# Altium footprint library diodes.PcbLib: 33 footprints (part 2 of 3)
Each footprint in its own frame and in the unit in brackets; x right, y up, seen from the top. Pads: shape width x height; smd on the part's side, far side on the other; paste and mask are expansions set on the pad; w line width, h text height; cw(c..) or ccw(c..) is an arc to the next point about the centre after c.
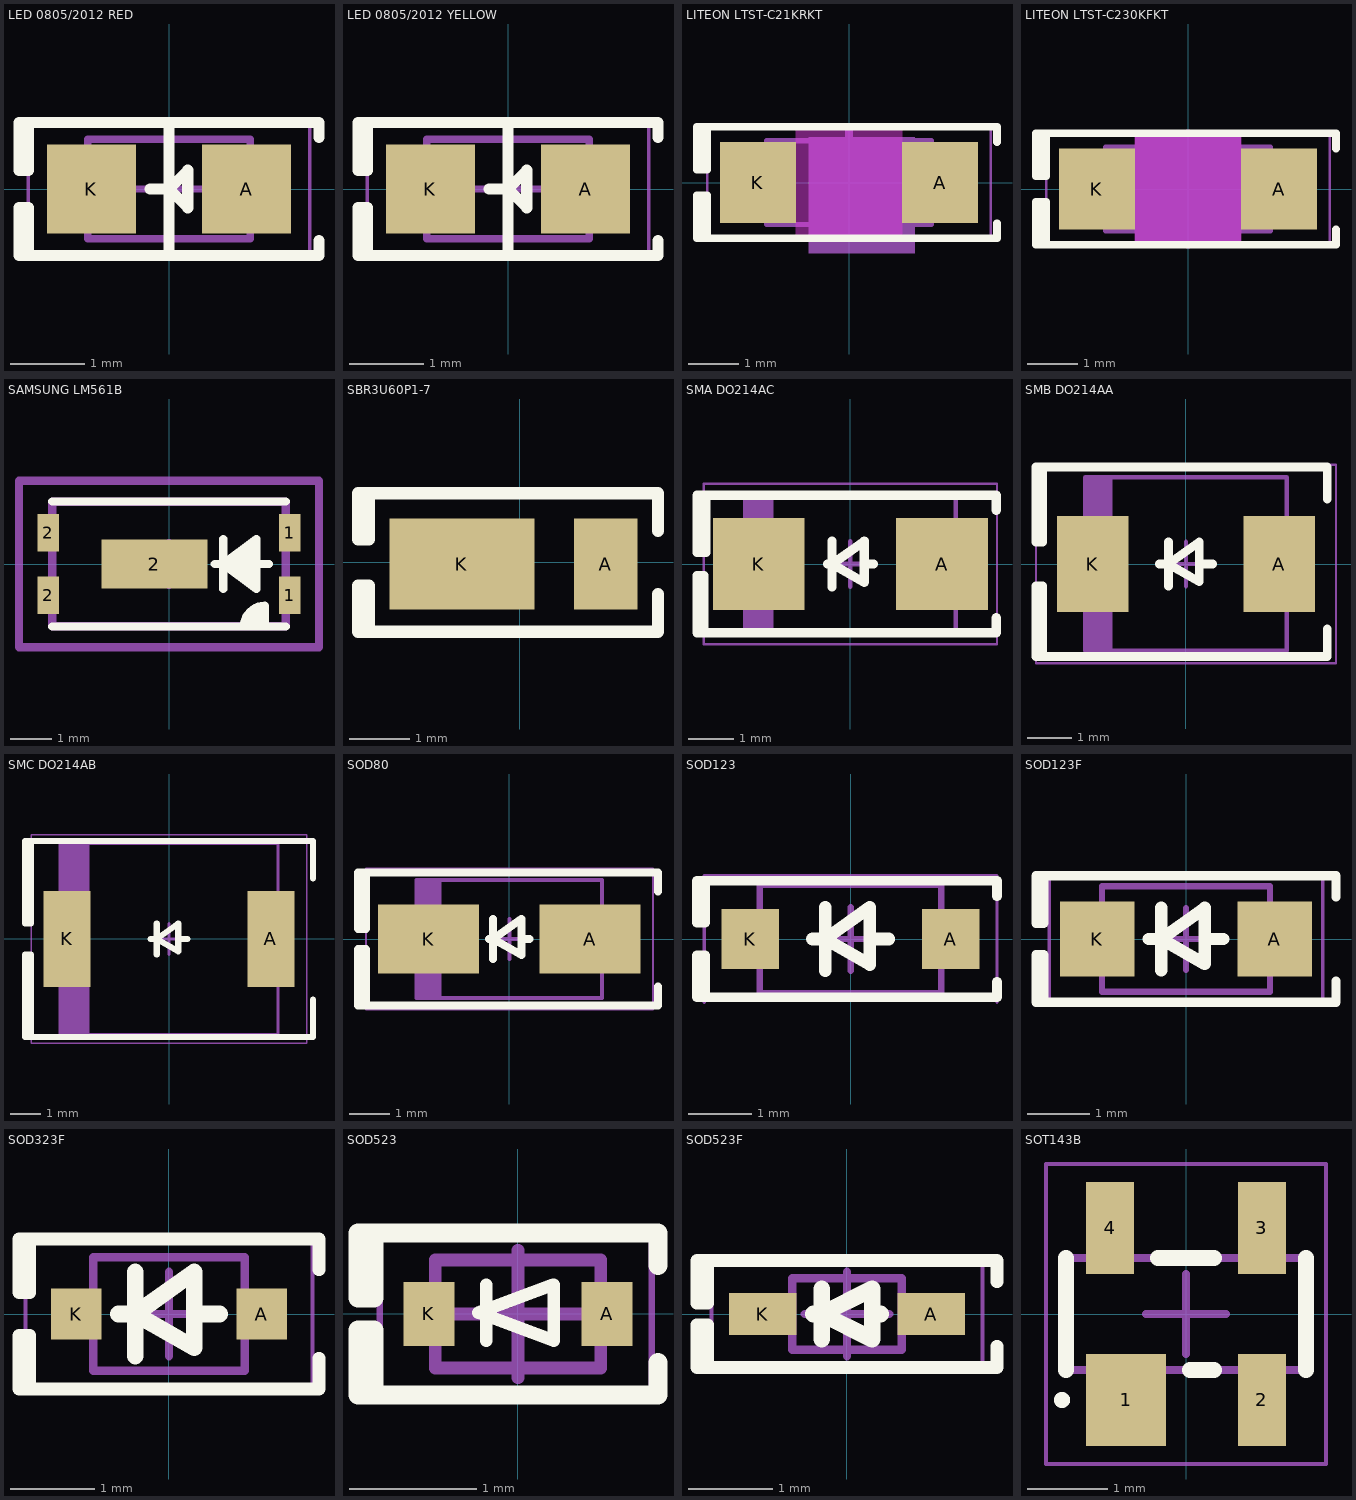
[diagram p1: the footprints below, top view; thin cyan lines are the x and y axes]

## LED 0805/2012 RED [mm] "Chip Diode, 2-Leads, Body 2.00x1.25mm, IPC Medium Density"
height 0.7
pads (2):
  rect 1.2x1.2 smd: A(1.05,0) K(-1.05,0)
Top Overlay:
  lines w0.15: -0.254,0 0,0 ; 0,-0.9 0,0.9 ; 2.032,-0.7 2.032,-0.9 -1.905,-0.9 ; 2.032,0.7 2.032,0.9 -1.905,0.9 ; -1.905,-0.9 -2.032,-0.9 -2.032,-0.254 -1.905,-0.254 -1.905,-0.9 ; -1.905,0.9 -2.032,0.9 -2.032,0.254 -1.905,0.254 -1.905,0.9 ; 0,0 0.254,-0.254 0.254,0.254 0,0
Mechanical 13:
  lines w0.1: -1.1,-0.675 -1.1,0.675 1.1,0.675 1.1,-0.675 -1.1,-0.675
Mechanical 15:
  lines w0.05: -1.905,-0.95 -1.905,0.95 1.905,0.95 1.905,-0.95 -1.905,-0.95
  lines w0.1: -0.5,0 0.5,0 ; 0,-0.5 0,0.5
3D body "LED 0805 Lens RED.STEP": height 0.9, standoff 0.3, extent -0.65,-0.625 0.65,0.625
3D body "LED 0805 Base RED.STEP": height 0.4, standoff 0, extent -1,-0.625 1,0.625

## LED 0805/2012 YELLOW [mm] "Chip Diode, 2-Leads, Body 2.00x1.25mm, IPC Medium Density"
height 0.7
pads (2):
  rect 1.2x1.2 smd: A(1.05,0) K(-1.05,0)
Top Overlay:
  lines w0.15: -0.254,0 0,0 ; 0,-0.9 0,0.9 ; 2.032,-0.7 2.032,-0.9 -1.905,-0.9 ; 2.032,0.7 2.032,0.9 -1.905,0.9 ; -1.905,-0.9 -2.032,-0.9 -2.032,-0.254 -1.905,-0.254 -1.905,-0.9 ; -1.905,0.9 -2.032,0.9 -2.032,0.254 -1.905,0.254 -1.905,0.9 ; 0,0 0.254,0.254 0.254,-0.254 0,0
Mechanical 13:
  lines w0.1: -1.1,-0.675 -1.1,0.675 1.1,0.675 1.1,-0.675 -1.1,-0.675
Mechanical 15:
  lines w0.05: -1.905,-0.95 -1.905,0.95 1.905,0.95 1.905,-0.95 -1.905,-0.95
  lines w0.1: -0.5,0 0.5,0 ; 0,-0.5 0,0.5
3D body "LED 0805 Lens YELLOW.STEP": height 0.9, standoff 0.3, extent -0.65,-0.625 0.65,0.625
3D body "LED 0805 Base YELLOW.STEP": height 0.4, standoff 0, extent -1,-0.625 1,0.625

## LITEON LTST-C21KRKT [mm] "Chip Diode, 2-Leads, Body 3.13x1.55mm, IPC Medium Density"
height 0.7
pads (2):
  rect 1.5x1.6 smd: A(1.8,0) K(-1.8,0)
Top Overlay:
  region: -2.794,1.1 -3,1.1 -3,0.254 -2.794,0.254
  region: -2.794,-0.254 -3,-0.254 -3,-1.1 -2.794,-1.1
  lines w0.15: 2.921,-0.8 2.921,-1.1 -2.794,-1.1 ; 2.921,0.8 2.921,1.1 -2.794,1.1 ; -2.794,-1.1 -3,-1.1 -3,-0.254 -2.794,-0.254 -2.794,-1.1 ; -2.794,1.1 -3,1.1 -3,0.254 -2.794,0.254 -2.794,1.1
Keep-Out Layer:
  board cut-out: 1.05,-1.15 1.05,1.15 -1.05,1.15 -1.05,-1.15
Mechanical 13:
  lines w0.1: -1.625,-0.825 1.625,-0.825 1.625,0.825 -1.625,0.825 -1.625,-0.825
  lines w0.15: -0.254,0 0,0 ; 0,-1.1 0,1.1 ; 0.508,0 0.762,0 ; 0,0 0.508,0.381 0.508,-0.381 0,0
Mechanical 15:
  lines w0.05: -2.794,-1.1 2.794,-1.1 2.794,1.1 -2.794,1.1 -2.794,-1.1
  lines w0.1: -0.5,0 0.5,0 ; 0,-0.5 0,0.5
Mechanical 31:
  rectangle: -0.796,-1.404 1.304,0.896
3D body "LED 1206 Lens RED.STEP": height 0, standoff -0.6, extent -0.75,-0.8 0.75,0.8
3D body "LED 1206 Base RED.STEP": height 0.3, standoff -0.1, extent -1.6,-0.8 1.6,0.8

## LITEON LTST-C230KFKT [mm] "Chip Diode, 2-Leads, Body 3.13x1.55mm, IPC Medium Density"
height 0.7
pads (2):
  rect 1.5x1.6 smd: A(1.8,0) K(-1.8,0)
Top Overlay:
  region: -2.794,1.1 -3,1.1 -3,0.254 -2.794,0.254
  region: -2.794,-0.254 -3,-0.254 -3,-1.1 -2.794,-1.1
  lines w0.15: 2.921,-0.8 2.921,-1.1 -2.794,-1.1 ; 2.921,0.8 2.921,1.1 -2.794,1.1 ; -2.794,-1.1 -3,-1.1 -3,-0.254 -2.794,-0.254 -2.794,-1.1 ; -2.794,1.1 -3,1.1 -3,0.254 -2.794,0.254 -2.794,1.1
Keep-Out Layer:
  board cut-out: 1.05,-1.15 1.05,1.15 -1.05,1.15 -1.05,-1.15
Mechanical 13:
  lines w0.1: -1.625,-0.825 1.625,-0.825 1.625,0.825 -1.625,0.825 -1.625,-0.825
  lines w0.15: -0.254,0 0,0 ; 0,-1.1 0,1.1 ; 0.508,0 0.762,0 ; 0,0 0.508,0.381 0.508,-0.381 0,0
Mechanical 15:
  lines w0.05: -2.794,-1.1 2.794,-1.1 2.794,1.1 -2.794,1.1 -2.794,-1.1
  lines w0.1: -0.5,0 0.5,0 ; 0,-0.5 0,0.5
Mechanical 31:
  rectangle: -1.05,-1.15 1.05,1.15
3D body "LED 0805 Lens YELLOW.STEP": height 0, standoff -0.6, extent -0.65,-0.625 0.65,0.625
3D body "LED 1206 Base YELLOW.STEP": height 0.3, standoff -0.1, extent -1.6,-0.8 1.6,0.8

## SAMSUNG LM561B [mm]
height 0.8
pads (5):
  rect 0.52x0.9 smd: 1(2.9,-0.75) 1(2.9,0.75) 2(-2.9,-0.75) 2(-2.9,0.75)
  rect 2.54x1.18 smd: 2(-0.35,0)
Top Overlay:
  region: 2.1,-0.6 2.1,0.6 2,0.6 1.4,0 2,-0.6
  region: 1.8,-1.5 2.3,-1.5 2.3,-1 2.1,-1 1.8,-1.3
  lines w0.2: -2.8,-1.5 2.8,-1.5 ; -2.8,1.5 2.8,1.5 ; 1.1,0 2.4,0 ; 1.3,-0.6 1.3,0.6 ; 1.8,-1.5 cw(c2.3,-1.5) 2.3,-1 ; 2.3,-1.5 2.3,-1 ; 2.3,-1 2.3,-1 ; 1.3,0 2.1,-0.6 2.1,0.6 1.3,0
Mechanical 1:
  lines w0.2: -2.8,-1.498 -2.8,1.498 2.8,1.498 2.8,-1.498 -2.8,-1.498
Mechanical 15:
  lines w0.2: -0.5,0 0.5,0 ; 0,-0.5 0,0.5 ; -3.6,-2 -3.6,2 3.6,2 3.6,-2 -3.6,-2
3D body "Samsung LM561B LED.STEP": height 0.8, standoff 0, extent -2.8,-1.498 2.8,1.498

## SBR3U60P1-7 [mm]
pads (2):
  rect 1.05x1.5 smd: A(1.425,-0.025)
  rect 2.4x1.5 smd: K(-0.95,-0.025)
Top Overlay:
  lines w0.2: -2.488,-1.143 -2.488,-0.381 -2.667,-0.381 -2.667,-1.143 2.286,-1.143 2.286,-0.518 ; -2.488,1.143 -2.488,0.381 -2.667,0.381 -2.667,1.143 2.286,1.143 2.286,0.518
3D body: height 1.1, standoff 1, extent -1.125,-0.95 -0.95,0.95
3D body: height 0.2, standoff 0, extent -1.913,-0.6 -1.488,0.45
3D body: height 0.2, standoff 0, extent 1.5,-0.6 1.925,0.45
3D body: height 1, standoff 0, extent -1.5,-0.95 1.5,0.95

## SMA DO214AC [mm] "Molded Diode, 2-Leads, Body 4.30x2.60mm, IPC Medium Density"
height 2.4
pads (2):
  rect 2x2 smd: A(2,0) K(-2,0)
Top Overlay:
  lines w0.2: -3.2,-1.5 -3.2,-0.254 -3.35,-0.254 -3.35,-1.5 3.183,-1.5 3.183,-1.175 ; -3.156,1.5 -3.156,0.254 -3.35,0.254 -3.35,1.5 3.183,1.5 3.183,1.175 ; -0.5,0 -0.4,0 ; -0.4,-0.5 -0.4,0.5 ; 0.3,0 0.5,0 ; -0.4,0 0.3,-0.4 0.3,0.5 -0.4,0
Mechanical 13:
  region: -1.681,1.46 -2.3,1.46 -2.3,-1.46 -1.681,-1.46
  lines w0.1: -2.3,-1.46 -2.3,1.46 2.3,1.46 2.3,-1.46 -2.3,-1.46
Mechanical 15:
  lines w0.05: -3.2,-1.75 -3.2,1.75 3.2,1.75 3.2,-1.75 -3.2,-1.75
  lines w0.1: -0.5,0 0.5,0 ; 0,-0.5 0,0.5
3D body "SMA.STEP": height 2.4, standoff 0, extent -2.6,-1.375 2.6,1.375

## SMB DO214AA [mm] "Molded Diode, 2-Leads, Body 4.31x3.62mm, IPC Medium Density"
height 2.44
pads (2):
  rect 1.62x2.18 smd: A(2.11,0) K(-2.11,0)
Top Overlay:
  lines w0.2: -3.25,-2.1 -3.25,-0.5 -3.4,-0.5 -3.4,-2.1 3.2,-2.1 3.2,-1.475 ; -0.6,0 -0.4,0 ; -0.4,-0.5 -0.4,0.5 ; 0.3,0 0.6,0 ; 3.2,1.475 3.2,2.2 -3.25,2.2 ; -3.25,2.2 -3.4,2.2 -3.4,0.5 -3.25,0.5 -3.25,2.2 ; -0.4,0 0.3,-0.4 0.3,0.5 -0.4,0
Mechanical 13:
  region: -1.67,1.97 -2.285,1.97 -2.285,-1.97 -1.67,-1.97
  lines w0.1: -2.285,-1.97 2.285,-1.97 2.285,1.97 -2.285,1.97 -2.285,-1.97
Mechanical 15:
  lines w0.05: -3.4,-2.25 3.4,-2.25 3.4,2.25 -3.4,2.25 -3.4,-2.25
  lines w0.1: -0.5,0 0.5,0 ; 0,-0.5 0,0.5
3D body "SMB.STEP": height 2.4, standoff 0, extent -2.6,-1.8 2.6,1.799

## SMC DO214AB [mm] "Molded Diode, 2-Leads, Body 6.85x5.90mm, IPC Medium Density"
height 2.62
pads (2):
  rect 1.54x3.14 smd: A(3.325,0) K(-3.325,0)
Top Overlay:
  lines w0.2: -4.5,-3.2 -4.5,-0.5 -4.7,-0.5 -4.7,-3.2 4.7,-3.2 4.7,-1.975 ; -4.5,3.2 -4.5,0.5 -4.7,0.5 -4.7,3.2 4.7,3.2 4.7,1.975 ; -0.6,0 -0.4,0 ; -0.4,-0.5 -0.4,0.5 ; 0.3,0 0.6,0 ; -0.4,0 0.3,0.5 0.3,-0.4 -0.4,0
Mechanical 13:
  region: -2.599,3.11 -3.555,3.11 -3.555,-3.11 -2.599,-3.11
  lines w0.1: -3.555,-3.11 3.555,-3.11 3.555,3.11 -3.555,3.11 -3.555,-3.11
Mechanical 15:
  lines w0.05: -4.5,-3.4 4.5,-3.4 4.5,3.4 -4.5,3.4 -4.5,-3.4
  lines w0.1: -0.5,0 0.5,0 ; 0,-0.5 0,0.5
3D body "SMC.STEP": height 2.6, standoff 0, extent -3.97,-2.952 3.97,2.952

## SOD80 [mm] "Molded Diode, 2-Leads,"
height 2.4
pads (2):
  rect 2.5x1.7 smd: A(2,0) K(-2,0)
Top Overlay:
  lines w0.2: -3.556,-1.651 -3.556,-0.254 -3.75,-0.254 -3.75,-1.651 3.683,-1.651 3.683,-1.175 ; -3.556,1.651 -3.556,0.254 -3.75,0.254 -3.75,1.651 3.683,1.651 3.683,1.175 ; -0.5,0 -0.4,0 ; -0.4,-0.5 -0.4,0.5 ; 0.3,0 0.5,0 ; -0.4,0 0.3,0.5 0.3,-0.4 -0.4,0
Mechanical 13:
  region: -1.681,1.46 -2.3,1.46 -2.3,-1.46 -1.681,-1.46
  lines w0.1: -2.3,-1.46 2.3,-1.46 2.3,1.46 -2.3,1.46 -2.3,-1.46
Mechanical 15:
  lines w0.05: -3.556,-1.75 3.556,-1.75 3.556,1.75 -3.556,1.75 -3.556,-1.75
  lines w0.1: -0.5,0 0.5,0 ; 0,-0.5 0,0.5
3D body "SOD-80C.STEP": height 0.8, standoff -0.8, extent -1.723,-0.804 1.977,0.804

## SOD123 [mm] "SOD, 2-Leads, Body 1.55x3.70mm, IPC Medium Density"
height 1.35
pads (2):
  rect 0.9x0.95 smd: A(1.575,0) K(-1.575,0)
Top Overlay:
  lines w0.15: 2.3,-0.675 2.3,-0.916 -2.286,-0.916 ; 2.3,0.675 2.3,0.916 -2.286,0.916 ; -2.286,-0.916 -2.413,-0.916 -2.413,-0.254 -2.286,-0.254 -2.286,-0.916 ; -2.286,0.916 -2.286,0.254 -2.413,0.254 -2.413,0.916 -2.286,0.916
  lines w0.2: -0.6,0 -0.4,0 ; -0.4,-0.5 -0.4,0.5 ; 0.3,0 0.6,0 ; -0.4,0 0.3,0.5 0.3,-0.4 -0.4,0
Mechanical 13:
  lines w0.1: -1.425,-0.85 1.425,-0.85 1.425,0.85 -1.425,0.85 -1.425,-0.85
Mechanical 15:
  lines w0.05: -2.3,-1 -2.3,1 2.3,1 2.3,-1 ; -2.3,-0.9 2.3,-0.9
  lines w0.1: -0.5,0 0.5,0 ; 0,-0.5 0,0.5
3D body "SOD-123.STEP": height 1.35, standoff 0, extent -1.864,-0.775 1.864,0.775

## SOD123F [mm] "SODFL, 2-Leads, Body 1.60x3.50mm, IPC Medium Density"
height 1
pads (2):
  rect 1.2x1.2 smd: A(1.43,0) K(-1.43,0)
Top Overlay:
  lines w0.15: 2.413,-0.675 2.413,-1.016 -2.286,-1.016 ; 2.413,0.675 2.413,1.016 -2.286,1.016 ; -2.286,-1.016 -2.286,-0.254 -2.413,-0.254 -2.413,-1.016 -2.286,-1.016 ; -2.286,1.016 -2.413,1.016 -2.413,0.254 -2.286,0.254 -2.286,1.016
  lines w0.2: -0.6,0 -0.4,0 ; -0.4,-0.5 -0.4,0.5 ; 0.3,0 0.6,0 ; -0.4,0 0.3,-0.4 0.3,0.5 -0.4,0
Mechanical 13:
  lines w0.1: -1.35,-0.85 -1.35,0.85 1.35,0.85 1.35,-0.85 -1.35,-0.85
Mechanical 15:
  lines w0.05: -2.2,-1 -2.2,1 2.2,1 2.2,-1 -2.2,-1
  lines w0.1: -0.5,0 0.5,0 ; 0,-0.5 0,0.5
3D body "SOD123F.STEP": height 1.1, standoff 0, extent -1.75,-0.8 1.75,0.8

## SOD323F [mm] "SODFL, 2-Leads, Body 1.25x2.50mm, IPC Medium Density"
height 0.8
pads (2):
  rect 0.6x0.6 smd: A(1.1,0) K(-1.1,0)
Top Overlay:
  lines w0.15: -1.651,-0.889 -1.651,-0.254 -1.778,-0.254 -1.778,-0.889 1.778,-0.889 1.778,-0.525 ; -1.651,0.889 -1.651,0.254 -1.778,0.254 -1.778,0.889 1.778,0.889 1.778,0.525
  lines w0.2: -0.6,0 -0.4,0 ; -0.4,-0.5 -0.4,0.5 ; 0.3,0 0.6,0 ; -0.4,0 0.3,0.5 0.3,-0.4 -0.4,0
Mechanical 13:
  lines w0.1: -0.9,-0.675 0.9,-0.675 0.9,0.675 -0.9,0.675 -0.9,-0.675
Mechanical 15:
  lines w0.05: -1.7,-0.85 1.7,-0.85 1.7,0.85 -1.7,0.85 -1.7,-0.85
  lines w0.1: -0.5,0 0.5,0 ; 0,-0.5 0,0.5
3D body "SOD323F.STEP": height 0.8, standoff 0, extent -1.25,-0.625 1.25,0.625

## SOD523 [mm]
pads (2):
  rect 0.4x0.5 smd: A(0.7,0) K(-0.7,0)
Top Overlay:
  lines w0.1: -0.25,-0.21 -0.25,0.23 ; -0.31,0.01 0.28,-0.21 0.28,0.23 -0.31,0.01
  lines w0.15: 1.1,-0.381 1.1,-0.635 -1.257,-0.635 ; 1.1,0.381 1.1,0.635 -1.257,0.635 ; -1.257,-0.635 -1.13,-0.635 -1.13,-0.127 -1.257,-0.127 -1.257,-0.635 ; -1.257,0.635 -1.257,0.127 -1.13,0.127 -1.13,0.635 -1.257,0.635
Mechanical 13:
  lines w0.1: -0.65,-0.425 0.65,-0.425 0.65,0.425 -0.65,0.425 -0.65,-0.425
Mechanical 15:
  lines w0.05: -1.085,-0.6 1.05,-0.6 1.05,0.6 -1.085,0.6 -1.085,-0.6
  lines w0.1: -0.5,0 0.5,0 ; 0,-0.5 0,0.5
3D body "User Library-SOD-523F.step": height 0.7, standoff 0, extent -0.8,-0.399 0.8,0.399

## SOD523F [mm] "SODFL, 2-Leads, Body 0.80x1.60mm, IPC Medium Density"
height 0.77
pads (2):
  rect 0.8x0.5 smd: A(1,0) K(-1,0)
Top Overlay:
  lines w0.15: 1.778,-0.381 1.778,-0.635 -1.651,-0.635 ; 1.778,0.381 1.778,0.635 -1.651,0.635 ; -1.651,-0.635 -1.651,-0.127 -1.778,-0.127 -1.778,-0.635 -1.651,-0.635 ; -1.651,0.635 -1.778,0.635 -1.778,0.127 -1.651,0.127 -1.651,0.635
  lines w0.2: -0.4,0 -0.3,0 ; -0.3,-0.3 -0.3,0.3 ; 0.4,0 0.3,0 ; -0.3,0 0.3,0.3 0.3,0 ; -0.3,0 0.3,-0.3 0.3,0
Mechanical 13:
  lines w0.1: -0.65,-0.425 0.65,-0.425 0.65,0.425 -0.65,0.425 -0.65,-0.425
Mechanical 15:
  lines w0.05: -1.606,-0.6 1.606,-0.6 1.606,0.6 -1.606,0.6 -1.606,-0.6
  lines w0.1: -0.5,0 0.5,0 ; 0,-0.5 0,0.5
3D body "SOD523F.STEP": height 0.65, standoff 0, extent -0.8,-0.4 0.8,0.4

## SOT143B [mm] "SOT143, 4-Leads, Body 2.90x2.30mm, Pitch 1.90mm, IPC Medium Density"
height 1.1
pads (4):
  rect 1x1.15 smd: 1(-0.75,-1.075)
  rect 0.6x1.15 smd: 2(0.95,-1.075) 3(0.95,1.075) 4(-0.95,1.075)
Top Overlay:
  circle w0.1: c-1.55,-1.075 r0.05
  lines w0.2: -1.5,-0.7 -1.5,0.7 ; -0.35,0.7 0.35,0.7 ; 0.05,-0.7 0.35,-0.7 ; 1.5,-0.7 1.5,0.7
Mechanical 13:
  lines w0.1: -1.5,-0.7 -1.5,0.7 1.5,0.7 1.5,-0.7 -1.5,-0.7
Mechanical 15:
  lines w0.05: -1.75,-1.875 -1.75,1.875 1.75,1.875 1.75,-1.875 -1.75,-1.875
  lines w0.1: -0.5,0 0.5,0 ; 0,-0.5 0,0.5
3D body "SOT143B.STEP": height 1, standoff 0, extent -1.45,-1.1 1.45,1.1